# Altium footprint library Conectores_Ftp.PcbLib: 28 footprints (part 1 of 2)
Each footprint in its own frame and in the unit in brackets; x right, y up, seen from the top. Pads: shape width x height; smd on the part's side, far side on the other; paste and mask are expansions set on the pad; w line width, h text height; cw(c..) or ccw(c..) is an arc to the next point about the centre after c.
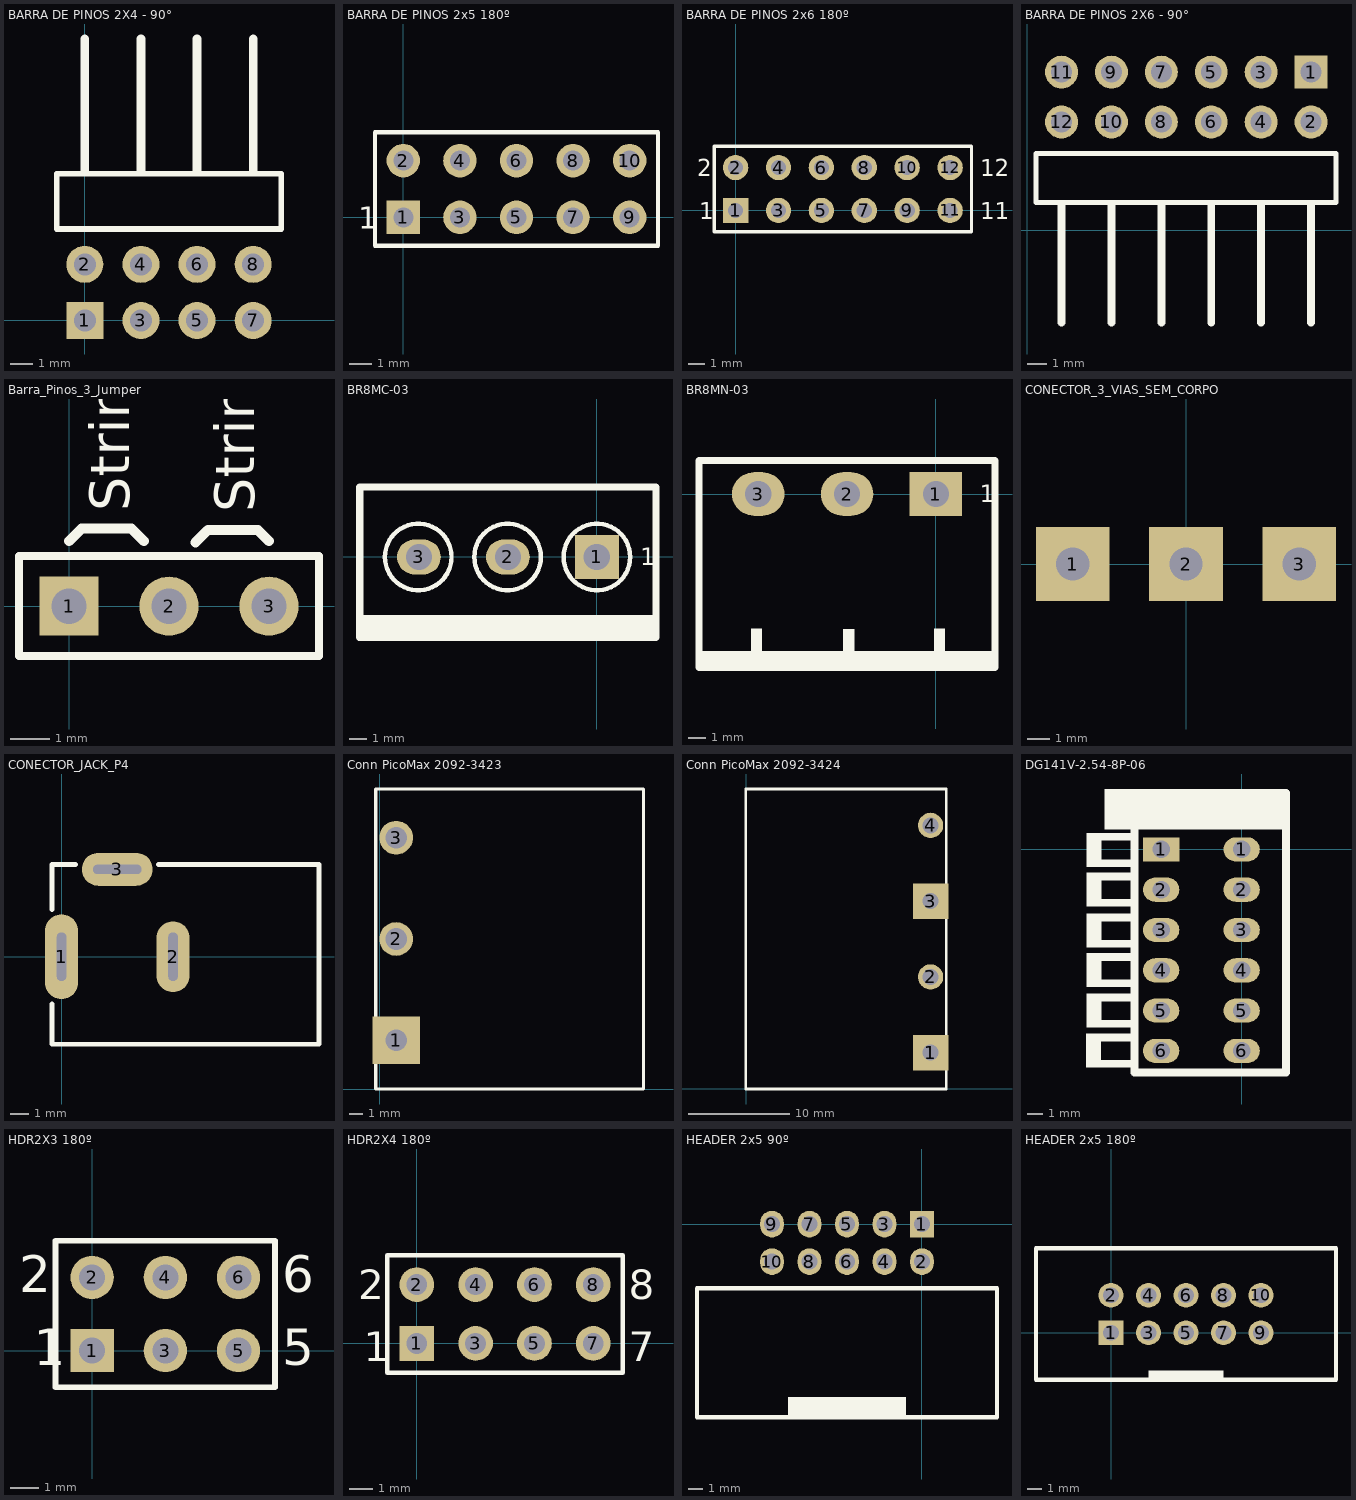
[diagram p0: the footprints below, top view; thin cyan lines are the x and y axes]

## BARRA DE PINOS 2X4 - 90° [mil]
pads (8):
  rect 66x66 hole 39.37: 1(0,0)
  round 66 hole 39.37: 2(0,100) 3(100,0) 4(100,100) 5(200,0) 6(200,100) 7(300,0) 8(300,100)
Top Overlay:
  lines w10: -50,259.84 -50,162.99 350,162.99 350,261.42 -50,261.42
  lines w15.75: 0,265.35 0,501.57 ; 100,265.35 100,501.57 ; 200,265.35 200,501.57 ; 300,265.35 300,501.57
3D body: height 157.48, standoff 0, extent -29.92,-29.12 29.13,29.9
3D body: height 70.87, standoff 0, extent -29.53,70.47 29.52,129.52
3D body: height 157.48, standoff 0, extent 70.08,-29.12 129.13,29.9
3D body: height 70.87, standoff 0, extent 70.47,70.47 129.52,129.52
3D body: height 157.48, standoff 133.86, extent -15.75,0 15.75,505.51
3D body: height 157.48, standoff 133.86, extent 84.25,0 115.75,505.51
3D body: height 70.87, standoff 39.37, extent -15.75,100 15.75,505.51
3D body: height 70.87, standoff 39.37, extent 84.25,100 115.75,505.51
3D body: height 70.87, standoff 39.37, extent 184.25,100 215.75,505.51
3D body: height 157.48, standoff 0, extent 170.08,-29.12 229.13,29.9
3D body: height 70.87, standoff 0, extent 170.47,70.47 229.52,129.52
3D body: height 157.48, standoff 0, extent 270.08,-29.12 329.13,29.9
3D body: height 70.87, standoff 0, extent 270.47,70.47 329.52,129.52
3D body: height 157.48, standoff 133.86, extent 184.25,0 215.75,505.51
3D body: height 196.85, standoff 0, extent -50.2,160.83 354.73,265.16
3D body: height 70.87, standoff 39.37, extent 284.25,100 315.75,505.51
3D body: height 157.48, standoff 133.86, extent 284.25,0 315.75,505.51

## BARRA DE PINOS 2x5 180º [mm] "BARRA DE PINOS 5x2 180º Position"
pads (10):
  rect 1.5x1.5 hole 0.9: 1(0,0)
  round 1.5 hole 0.9: 2(0,2.54) 3(2.54,0) 4(2.54,2.54) 5(5.08,0) 6(5.08,2.54) 7(7.62,0) 8(7.62,2.54) 9(10.16,0) 10(10.16,2.54)
Top Overlay:
  lines w0.2: -1.27,-1.27 11.43,-1.27 11.43,3.81 -1.27,3.81 -1.27,-1.27
  text "1" at -2.032,-0.508 h1

## BARRA DE PINOS 2x6 180º [mm] "BARRA DE PINOS 2x6 180º Position"
pads (12):
  rect 1.5x1.5 hole 0.9: 1(0,0)
  round 1.5 hole 0.9: 2(0,2.54) 3(2.54,0) 4(2.54,2.54) 5(5.08,0) 6(5.08,2.54) 7(7.62,0) 8(7.62,2.54) 9(10.16,0) 10(10.16,2.54) 11(12.7,0) 12(12.7,2.54)
Top Overlay:
  lines w0.2: -1.27,-1.27 13.97,-1.27 13.97,3.81 -1.27,3.81 -1.27,-1.27
  text "1" at -2.159,-0.508 h1
  text "2" at -2.286,2.032 h1
  text "11" at 14.478,-0.508 h1
  text "12" at 14.478,2.032 h1

## BARRA DE PINOS 2X6 - 90° [mil]
pads (12):
  rect 66x66 hole 42: 1(568.5,317.32)
  round 66 hole 42: 2(568.5,217.32) 3(468.5,317.32) 4(468.5,217.32) 5(368.5,317.32) 6(368.5,217.32) 7(268.5,317.32) 8(268.5,217.32) 9(168.5,317.32) 10(168.5,217.32) 11(68.5,317.32) 12(68.5,217.32)
Top Overlay:
  lines w10: 17.32,55.91 17.32,154.33 ; 18.5,55.91 618.5,55.91 ; 18.5,154.33 618.5,154.33 618.5,57.48
  lines w15.75: 68.5,-184.25 68.5,51.97 ; 168.5,-184.25 168.5,51.97 ; 268.5,-184.25 268.5,51.97 ; 368.5,-184.25 368.5,51.97 ; 468.5,-184.25 468.5,51.97 ; 568.5,-184.25 568.5,51.97
3D body: height 157.48, standoff 0, extent 538.98,287.82 598.04,346.84
3D body: height 70.87, standoff 0, extent 538.98,187.8 598.04,246.85
3D body: height 157.48, standoff 0, extent 338.98,287.82 398.04,346.84
3D body: height 157.48, standoff 0, extent 438.98,287.82 498.04,346.84
3D body: height 70.87, standoff 0, extent 338.98,187.8 398.04,246.85
3D body: height 70.87, standoff 0, extent 438.98,187.8 498.04,246.85
3D body: height 70.87, standoff 39.37, extent 552.76,-188.19 584.25,217.32
3D body: height 157.48, standoff 133.86, extent 552.76,-188.19 584.25,317.32
3D body: height 157.48, standoff 133.86, extent 452.76,-188.19 484.25,317.32
3D body: height 70.87, standoff 39.37, extent 452.76,-188.19 484.25,217.32
3D body: height 70.87, standoff 39.37, extent 352.76,-188.19 384.25,217.32
3D body: height 157.48, standoff 133.86, extent 352.76,-188.19 384.25,317.32
3D body: height 70.87, standoff 39.37, extent 252.76,-188.19 284.25,217.32
3D body: height 157.48, standoff 0, extent 238.98,287.82 298.04,346.84
3D body: height 70.87, standoff 0, extent 238.98,187.8 298.04,246.85
3D body: height 157.48, standoff 0, extent 138.98,287.82 198.04,346.84
3D body: height 157.48, standoff 0, extent 39.38,287.43 98.43,346.44
3D body: height 70.87, standoff 0, extent 38.99,187.8 98.04,246.86
3D body: height 70.87, standoff 0, extent 138.98,187.8 198.04,246.85
3D body: height 157.48, standoff 133.86, extent 152.76,-188.19 184.25,317.32
3D body: height 157.48, standoff 133.86, extent 252.76,-188.19 284.25,317.32
3D body: height 70.87, standoff 39.37, extent 152.76,-188.19 184.25,217.32
3D body: height 196.85, standoff 0, extent 13.78,52.17 620.08,156.5
3D body: height 70.87, standoff 39.37, extent 52.76,-188.19 84.25,217.32
3D body: height 157.48, standoff 133.86, extent 52.76,-188.19 84.25,317.32

## Barra_Pinos_3_Jumper [mm]
pads (3):
  rect 1.5x1.5 hole 0.9: 1(0,0)
  round 1.5 hole 0.9: 2(2.54,0) 3(5.08,0)
Top Overlay:
  lines w0.2: -1.27,-1.27 6.35,-1.27 6.35,1.27 -1.27,1.27 -1.27,-1.27
  lines w0.254: 0,1.651 0.318,1.968 1.587,1.968 1.905,1.651 ; 3.207,1.619 3.524,1.937 4.794,1.937 5.08,1.651
  text "String" at 4.699,2.381 h1
  text "String" at 1.524,2.413 h1
3D body "User Library-CON-072.step": height 16.31, standoff -2.5, extent -1.21,-1.243 6.29,1.257

## BR8MC-03 [mm]
pads (3):
  rect 2.5x2.5 hole 1.5: 1(0,0)
  oval 2.5x2 hole 1.5: 2(-5.08,0) 3(-10.16,0)
Top Overlay:
  circle w0.254: c0,0 r1.9
  circle w0.254: c-5.1,0 r1.9
  circle w0.254: c-10.2,0 r1.9
  rectangle: -13.64,-4.8 3.4,-3.3
  lines w0.4: -13.54,-4.6 -13.54,4 3.38,4 3.38,-4.6
  text "1" at 2.49,-0.48 h1

## BR8MN-03 [mm]
pads (3):
  rect 3x2.5 hole 1.5: 1(0,0)
  oval 3x2.5 hole 1.5: 2(-5.08,0) 3(-10.16,0)
Top Overlay:
  rectangle: -0.12,-8.99 0.52,-7.69
  rectangle: -5.31,-9.03 -4.67,-7.73
  rectangle: -10.57,-8.99 -9.93,-7.69
  rectangle: -13.66,-9.77 3.38,-8.97
  lines w0.4: -13.54,-9.906 -13.54,1.905 3.38,1.905 3.38,-9.906 -13.54,-9.906
  text "1" at 2.49,-0.48 h1
3D body "User Library-TB5_08-3R.STEP": height 8.55, standoff -4.1, extent -13.7,-9.968 3.54,2.032

## CONECTOR_3_VIAS_SEM_CORPO [mm]
pads (3):
  rect 3.3x3.3 hole 1.5: 1(-5.08,0) 2(0,0) 3(5.08,0)

## CONECTOR_JACK_P4 [mil]
pads (3):
  oval 70x180 hole 19.68 slot 102.36 at 90 deg mask+2: 1(0,0)
  oval 70x150 hole 19.68 slot 102.36 at 90 deg mask+2: 2(236,0)
  oval 150x70 hole 19.68 slot 102.36 at 0 deg mask+2: 3(118,185)
Top Overlay:
  lines w10: -20,-100 -20,-185 545,-185 545,195 205,195 ; -20,100 -20,195 30,195
3D body "User Library-CON-077.step": height 435.04, standoff -157.48, extent -14.45,-184.13 542.64,193.17

## Conn PicoMax 2092-3423 [mm]
pads (3):
  rect 3.5x3.5 hole 1.6: 1(1.2,3.6)
  round 2.5 hole 1.6: 2(1.2,11.1) 3(1.2,18.6)
Top Overlay:
  lines w0.254: -0.325,0 19.5,0 19.5,22.2 -0.325,22.2 -0.325,0
3D body "2092-3423_200-000.stp": height 14.4, standoff -2.4, extent 0,0 19.5,22.2

## Conn PicoMax 2092-3424 [mm]
pads (4):
  rect 3.5x3.5 hole 1.6: 1(18.25,3.575) 3(18.25,18.575)
  round 2.5 hole 1.6: 2(18.25,11.075) 4(18.25,26.075)
Top Overlay:
  lines w0.254: -0.05,-0.025 -0.05,29.675 19.8,29.675 19.8,-0.025 -0.05,-0.025
3D body "2092-3424.stp": height 14.4, standoff -3.6, extent -0.05,-0.025 19.45,29.675

## DG141V-2.54-8P-06 [mil]
pads (12):
  rect 90x60 hole 43.31: 1(-200,0)
  oval 90x60 hole 43.31: 1(0,0) 2(-200,-100) 2(0,-100) 3(-200,-200) 3(0,-200) 4(-200,-300) 4(0,-300) 5(-200,-400) 5(0,-400) 6(-200,-500) 6(0,-500)
Top Overlay:
  region: -260.02,-441.72 -260.02,-423.21 -385.8,-423.21 -385.8,-441.72
  region: -348,-358.05 -385.8,-358.05 -385.8,-441.71 -348,-441.71
  region: -260.02,-376.94 -260.02,-357.65 -385.81,-357.65 -385.81,-376.94
  region: -260.03,-141.73 -260.03,-123.23 -385.82,-123.23 -385.82,-141.73
  region: -348.02,-58.06 -385.81,-58.06 -385.81,-141.72 -348.02,-141.72
  region: -260.04,-76.96 -260.04,-57.67 -385.82,-57.67 -385.82,-76.96
  region: -260.04,21.65 -260.04,40.94 -385.83,40.94 -385.83,21.65
  region: -348.03,40.55 -385.82,40.55 -385.82,-43.11 -348.03,-43.11
  region: -260.03,-43.11 -260.03,-24.61 -385.82,-24.61 -385.82,-43.11
  region: -260.03,-243.1 -260.03,-224.6 -385.82,-224.6 -385.82,-243.1
  region: -348.02,-159.44 -385.82,-159.44 -385.82,-243.1 -348.02,-243.1
  region: -260.03,-178.34 -260.03,-159.04 -385.82,-159.04 -385.82,-178.34
  region: -260.03,-276.96 -260.03,-257.67 -385.82,-257.67 -385.82,-276.96
  region: -348.02,-258.07 -385.82,-258.07 -385.82,-341.73 -348.02,-341.73
  region: -260.03,-341.73 -260.03,-323.23 -385.82,-323.23 -385.82,-341.73
  region: -261.01,-476.35 -261.01,-457.06 -386.8,-457.06 -386.8,-476.35
  region: -348.99,-457.46 -386.78,-457.46 -386.78,-541.12 -348.99,-541.12
  region: -261.02,-541.1 -261.02,-522.6 -386.81,-522.6 -386.81,-541.1
  region: 110.24,149.99 -340.75,149.99 -340.75,49.99 110.24,49.99
  lines w19.68: -265.75,134.84 -265.75,-553.54 110.24,-553.54 110.24,139.76

## HDR2X3 180º [mm] "Connector; Header; 3x2 Position"
pads (6):
  rect 1.5x1.5 hole 0.9: 1(0,0)
  round 1.5 hole 0.9: 2(0,2.54) 3(2.54,0) 4(2.54,2.54) 5(5.08,0) 6(5.08,2.54)
Top Overlay:
  lines w0.2: 1.482,-1.27 6.35,-1.27 ; 6.35,-1.27 6.35,3.81 -1.27,3.81 -1.27,-1.27 6.35,-1.27
  text "6" at 6.604,2.032 h1.27
  text "5" at 6.604,-0.508 h1.27
  text "2" at -2.54,2.032 h1.27
  text "1" at -2.032,-0.508 h1.27
3D body "61300621121.stp": height 8.67, standoff -2.87, extent -1.27,-1.27 6.35,3.81

## HDR2X4 180º [mm] "Connector; Header; 3x2 Position"
pads (8):
  rect 1.5x1.5 hole 0.9: 1(0,0)
  round 1.5 hole 0.9: 2(0,2.54) 3(2.54,0) 4(2.54,2.54) 5(5.08,0) 6(5.08,2.54) 7(7.62,0) 8(7.62,2.54)
Top Overlay:
  lines w0.2: -1.27,-1.27 8.89,-1.27 8.89,3.81 -1.27,3.81 -1.27,-1.27
  text "8" at 9.144,1.905 h1.27
  text "7" at 9.144,-0.762 h1.27
  text "1" at -2.286,-0.762 h1.27
  text "2" at -2.54,1.905 h1.27
3D body "61300821121.stp": height 8.57, standoff -2.97, extent -1.27,-1.397 8.89,3.683

## HEADER 2x5 90º [mm]
pads (10):
  rect 1.6x1.8 hole 1.067: 1(0,0)
  oval 1.6x1.8 hole 1.067: 2(0,-2.54) 3(-2.54,0) 4(-2.54,-2.54) 5(-5.08,0) 6(-5.08,-2.54) 7(-7.62,0) 8(-7.62,-2.54) 9(-10.16,0) 10(-10.16,-2.54)
Top Overlay:
  rectangle: -9.08,-13.081 -1.08,-11.721
  lines w0.3: -15.24,-13.081 5.08,-13.081 5.08,-4.34 -15.24,-4.34 -15.24,-13.081
3D body "User Library-Header, right angle 10way (2x5).STEP": height 8.9, standoff -2.54, extent -15.23,-13.081 5.07,0.355

## HEADER 2x5 180º [mil]
pads (10):
  rect 66x66 hole 42: 1(0,0)
  round 66 hole 42: 2(0,100) 3(100,0) 4(100,100) 5(200,0) 6(200,100) 7(300,0) 8(300,100) 9(400,0) 10(400,100)
Top Overlay:
  rectangle: 100,-125 300,-100
  lines w11.81: -200,-125 -200,225 600,225 600,-125 -200,-125
3D body "User Library-BH_10_V.STEP": height 357.48, standoff -114.96, extent -199.99,-129.13 600.01,229.14